# Altium footprint library 8pin-molex-nanofit.PcbLib: 1 footprints
Each footprint in its own frame and in the unit in brackets; x right, y up, seen from the top. Pads: shape width x height; smd on the part's side, far side on the other; paste and mask are expansions set on the pad; w line width, h text height; cw(c..) or ccw(c..) is an arc to the next point about the centre after c.
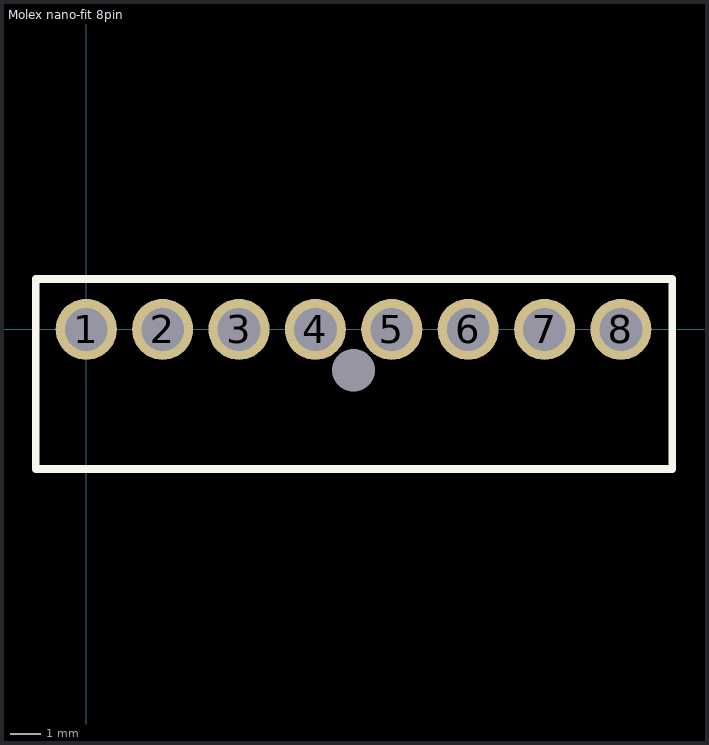
[diagram p0: the footprint, top view; thin cyan lines are the x and y axes]

## Molex nano-fit 8pin [mm] "105307"
pads (9):
  round 2 hole 1.4: 1(0,0) 2(2.5,0) 3(5,0) 4(7.5,0) 5(10,0) 6(12.5,0) 7(15,0) 8(17.5,0)
  round 0 hole 1.4: ""(8.75,-1.34)
Top Overlay:
  lines w0.254: -1.651,-4.572 -1.651,1.651 19.177,1.651 19.177,-4.572 -1.651,-4.572
3D body "1053091108.stp": height 10.52, standoff -3.19, extent -1.707,-4.689 19.233,1.651